# EAGLE library part SPI4432 (library MiiLib)
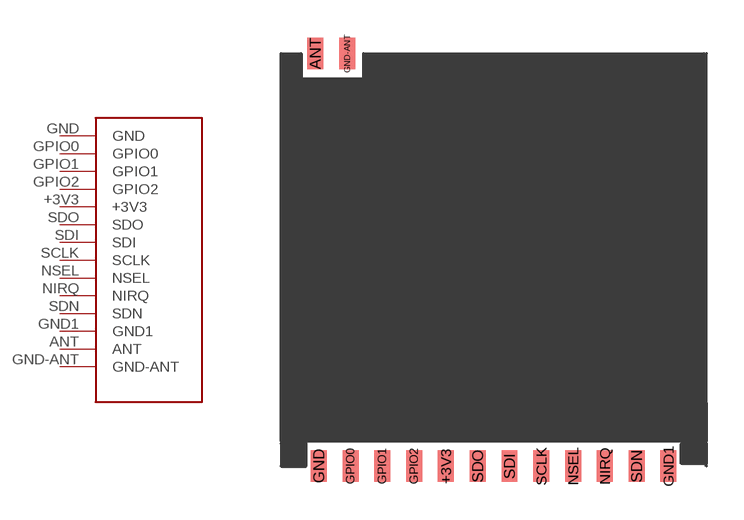
[diagram p7: symbol with the pads of SI4432; footprint SI4432]

Designator prefix -

## SPI4432  [SI4432]
+3V3  +3V3
ANT  ANT
GND  GND
GND1  GND1
GND-ANT  GND-ANT
GPIO0  GPIO0
GPIO1  GPIO1
GPIO2  GPIO2
NIRQ  NIRQ
NSEL  NSEL
SCLK  SCLK
SDI  SDI
SDN  SDN
SDO  SDO

## Footprint SI4432 (pad centres in mm)
smd 0.635 x 1.27: +3V3 6.59,0; ANT 1.37,16.51; GND 1.51,0; GND1 15.48,0; GND-ANT 2.64,16.51; GPIO0 2.78,0; GPIO1 4.05,0; GPIO2 5.32,0; NIRQ 12.94,0; NSEL 11.67,0; SCLK 10.4,0; SDI 9.13,0; SDN 14.21,0; SDO 7.86,0